# EAGLE library part PVB6_ (library con-ck)
PVB6 DPDT - SMT Termination
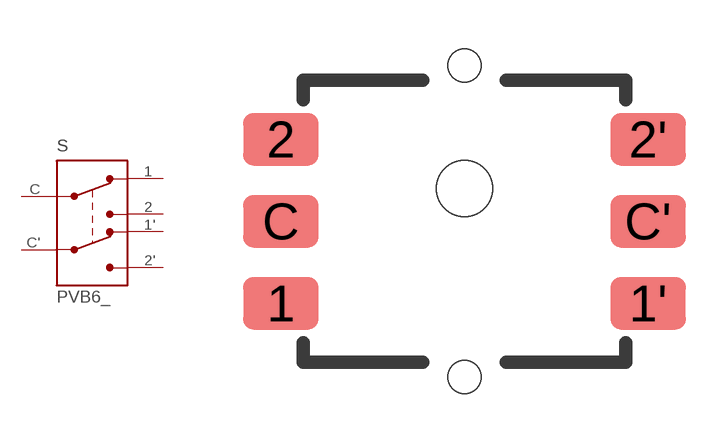
[diagram p0: symbol with the pads of PVB6; footprint PVB6]

Designator prefix S

## PVB6_  [PVB6]
1  1
1'  1'
2  2
2'  2'
C  C
C'  C'

## Footprint PVB6 (pad centres in mm)
smd 2.3 x 1.6: 1 -5.6,-2.5; 1' 5.6,-2.5; 2 -5.6,2.5; 2' 5.6,2.5; C -5.6,0; C' 5.6,0
hole 1.7 at 0,1
hole 1 at 0,4.75
hole 1 at 0,-4.75